# EAGLE library part HARTING2821 (library Traficon)
Harting TB 09 06 215 2821 DIN41612 type H, 15 pins socket
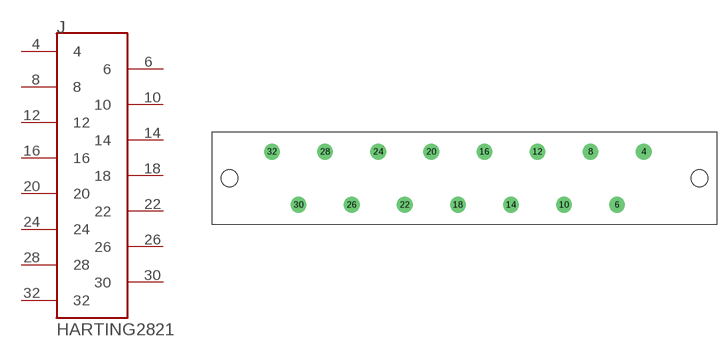
[diagram p52: symbol with the pads of HARTING2821; footprint HARTING2821]

Designator prefix J

## HARTING2821  [HARTING2821]
4  4
6  6
8  8
10  10
12  12
14  14
16  16
18  18
20  20
22  22
24  24
26  26
28  28
30  30
32  32

## Footprint HARTING2821 (pad centres in mm)
drill 2 round: 4 34.29,10.16; 6 29.21,0; 8 24.13,10.16; 10 19.05,0; 12 13.97,10.16; 14 8.89,0; 16 3.81,10.16; 18 -1.27,0; 20 -6.35,10.16; 22 -11.43,0; 24 -16.51,10.16; 26 -21.59,0; 28 -26.67,10.16; 30 -31.75,0; 32 -36.83,10.16
hole 3.2 at -45,5.08
hole 3.2 at 45,5.08